# EAGLE library part LTC4013 (library Skoba)
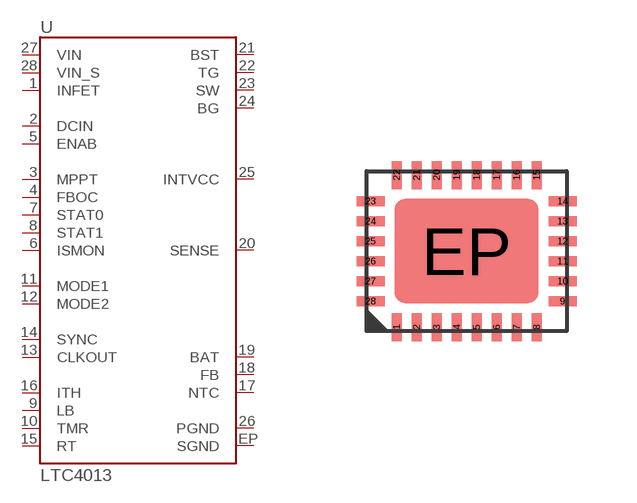
[diagram p50: symbol with the pads of QFN-28-4X5; footprint QFN-28-4X5]

Designator prefix U

## LTC4013  [QFN-28-4X5]
1  INFET
2  DCIN
3  MPPT
4  FBOC
5  ENAB
6  ISMON
7  STAT0
8  STAT1
9  LB
10  TMR
11  MODE1
12  MODE2
13  CLKOUT
14  SYNC
15  RT
16  ITH
17  NTC
18  FB
19  BAT
20  SENSE
21  BST
22  TG
23  SW
24  BG
25  INTVCC
26  PGND
27  VIN
28  VIN_S
EP  SGND

## Footprint QFN-28-4X5 (pad centres in mm)
smd 0.25 x 0.7: 1 -1.75,-1.9; 2 -1.25,-1.9; 3 -0.75,-1.9; 4 -0.25,-1.9; 5 0.25,-1.9; 6 0.75,-1.9; 7 1.25,-1.9; 8 1.75,-1.9; 15 1.75,1.9; 16 1.25,1.9; 17 0.75,1.9; 18 0.25,1.9; 19 -0.25,1.9; 20 -0.75,1.9; 21 -1.25,1.9; 22 -1.75,1.9
smd 0.7 x 0.25: 9 2.4,-1.25; 10 2.4,-0.75; 11 2.4,-0.25; 12 2.4,0.25; 13 2.4,0.75; 14 2.4,1.25; 23 -2.4,1.25; 24 -2.4,0.75; 25 -2.4,0.25; 26 -2.4,-0.25; 27 -2.4,-0.75; 28 -2.4,-1.25
smd 3.6 x 2.6: EP 0,0